# Altium footprint library LGA24-A.PcbLib: 1 footprints
Each footprint in its own frame and in the unit in brackets; x right, y up, seen from the top. Pads: shape width x height; smd on the part's side, far side on the other; paste and mask are expansions set on the pad; w line width, h text height; cw(c..) or ccw(c..) is an arc to the next point about the centre after c.
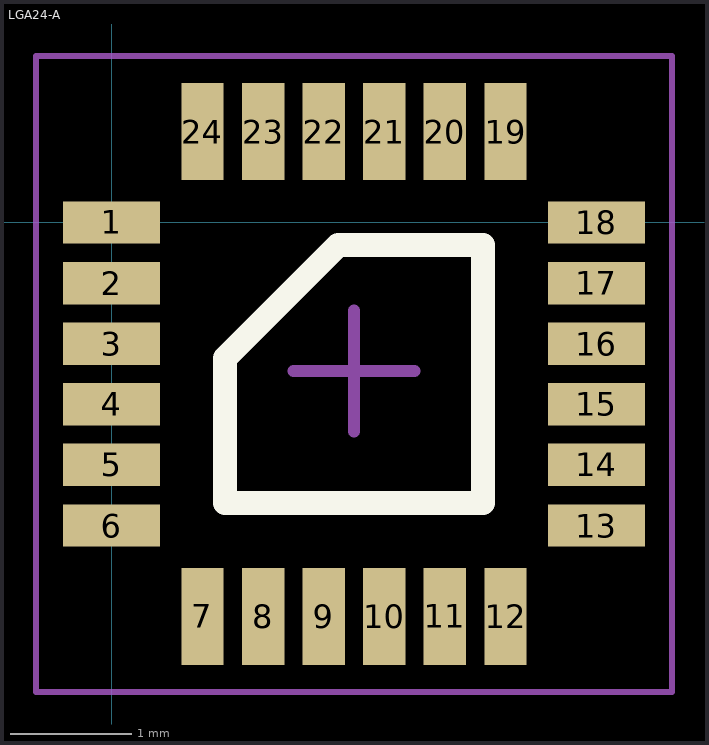
[diagram p0: the footprint, top view; thin cyan lines are the x and y axes]

## LGA24-A [mm]
pads (24):
  rect 0.8x0.35 smd mask+0.051: 1(0,0) 2(0,-0.5) 3(0,-1) 4(0,-1.5) 5(0,-2) 6(0,-2.5) 13(4,-2.5) 14(4,-2) 15(4,-1.5) 16(4,-1)
  rect 0.35x0.8 smd mask+0.051: 7(0.75,-3.25) 8(1.25,-3.25) 9(1.75,-3.25) 10(2.25,-3.25) 11(2.75,-3.25) 12(3.25,-3.25) 19(3.25,0.75) 20(2.75,0.75) 21(2.25,0.75) 22(1.75,0.75) 23(1.25,0.75) 24(0.75,0.75)
  rect 0.8x0.35 smd paste+0 mask+0.051: 17(4,-0.5) 18(4,0)
Top Overlay:
  lines w0.2: 0.935,-2.315 3.065,-2.315 3.065,-0.185 1.87,-0.185 0.935,-1.12 0.935,-2.315
Top Courtyard:
  lines w0.05: -0.625,-3.875 4.625,-3.875 4.625,1.375 -0.625,1.375 -0.625,-3.875
  lines w0.1: 1.5,-1.225 2.5,-1.225 ; 2,-1.725 2,-0.725